# Altium footprint library XL-1608SURC-06.PcbLib: 1 footprints
Each footprint in its own frame and in the unit in brackets; x right, y up, seen from the top. Pads: shape width x height; smd on the part's side, far side on the other; paste and mask are expansions set on the pad; w line width, h text height; cw(c..) or ccw(c..) is an arc to the next point about the centre after c.
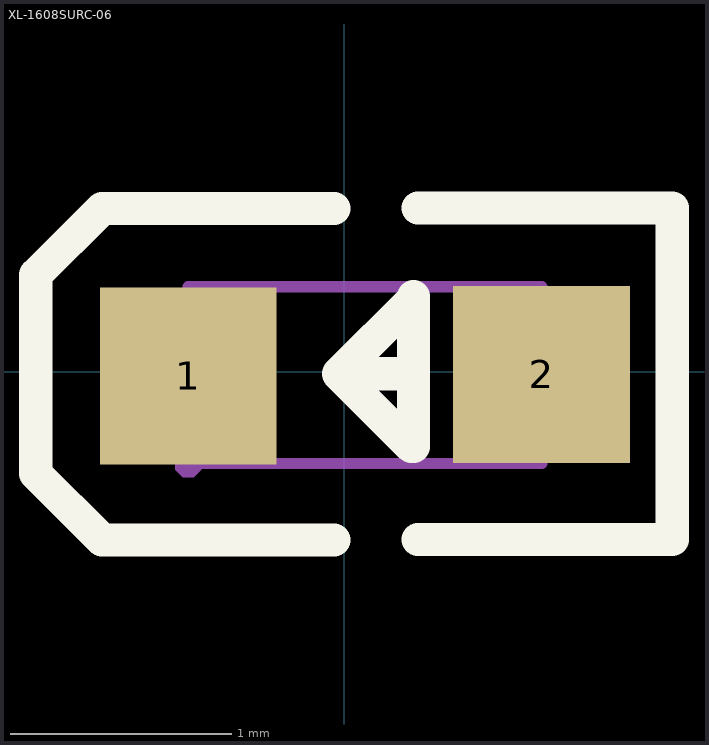
[diagram p0: the footprint, top view; thin cyan lines are the x and y axes]

## XL-1608SURC-06 [mm]
pads (2):
  rect 0.8x0.8 smd paste+0 mask+0.051: 1(-0.707,-0.02) 2(0.892,-0.013)
Top Overlay:
  lines w0.15: -0.047,-0.762 -1.097,-0.762 -1.397,-0.462 -1.397,-0.362 -1.397,0.338 -1.397,0.438 -1.097,0.738 -0.047,0.738 ; 0.313,-0.01 -0.027,-0.01 ; 0.333,-0.76 1.483,-0.76 ; 0.333,0.74 1.483,0.74 1.483,-0.74 ; -0.027,-0.01 0.313,0.33 0.313,0.34 0.313,-0.34 0.303,-0.34 -0.027,-0.01
Mechanical 6:
  region: -0.977,0.045 -0.437,0.045 -0.437,-0.085 -0.977,-0.085
  region: 0.827,-0.283 0.827,0.257 0.957,0.257 0.957,-0.283
  region: 0.622,0.052 1.162,0.052 1.162,-0.078 0.622,-0.078
Mechanical 15:
  region: -0.707,-0.42 -0.707,0.38 -0.407,0.38 -0.407,-0.42
  region: 0.593,-0.413 0.593,0.387 0.893,0.387 0.893,-0.413
  region: -0.647,-0.42 -0.648,-0.396 -0.683,-0.362 -0.731,-0.362 -0.766,-0.396 -0.767,-0.42 -0.766,-0.444 -0.731,-0.477 -0.683,-0.477 -0.648,-0.444 -0.647,-0.42
  lines w0.051: -0.707,-0.416 0.893,-0.416 0.893,0.384 -0.707,0.384 -0.707,-0.416